# EAGLE library part 216990-0003 (library SamacSys_Parts)
USB Connectors Mid-Mnt SMT CH0.58 16Ckt Type C Rec. Source: Datasheet <https://www.molex.com/pdm_docs/sd/2169900003_sd.pdf>
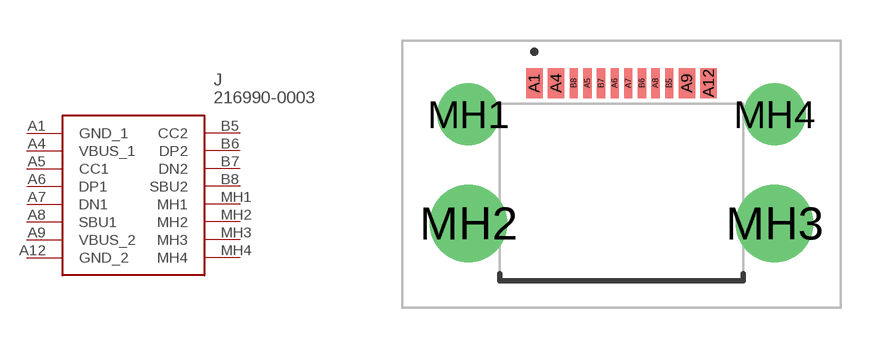
[diagram p9: symbol with the pads of 2169900003; footprint 2169900003]

Designator prefix J

## 216990-0003 (ARROW_PART_NUMBER: 216990-0003; ARROW_PRICE-STOCK: https://www.arrow.com/en/products/216990-0003/molex?region=nac; DESCRIPTION: USB Connectors Mid-Mnt SMT CH0.58 16Ckt Type C Rec.; HEIGHT: 3.36mm; MANUFACTURER_NAME: Molex; MANUFACTURER_PART_NUMBER: 216990-0003; MOUSER_PART_NUMBER: 538-216990-0003; MOUSER_PRICE-STOCK: https://www.mouser.co.uk/ProductDetail/Molex/216990-0003?qs=DRkmTr78QASn0GILUGAYCA%3D%3D)  [2169900003]
A1  GND_1
A4  VBUS_1
A5  CC1
A6  DP1
A7  DN1
A8  SBU1
A9  VBUS_2
A12  GND_2
B5  CC2
B6  DP2
B7  DN2
B8  SBU2
MH1  MH1
MH2  MH2
MH3  MH3
MH4  MH4

## Footprint 2169900003 (pad centres in mm)
216990-0003-1
smd 0.6 x 1.1: A1 -3.2,4; A4 -2.4,4; A9 2.4,4; A12 3.2,4
smd 0.3 x 1.1: A5 -1.25,4; A6 -0.25,4; A7 0.25,4; A8 1.25,4; B5 1.75,4; B6 0.75,4; B7 -0.75,4; B8 -1.75,4
drill 1.52 pad 2.28: MH1 -5.62,2.85; MH4 5.62,2.85
drill 1.9 pad 2.85: MH2 -5.62,-1.15; MH3 5.62,-1.15